# Altium integrated library Analog Devices Temperature Sensors.IntLib: 271 symbols (part 7 of 14)
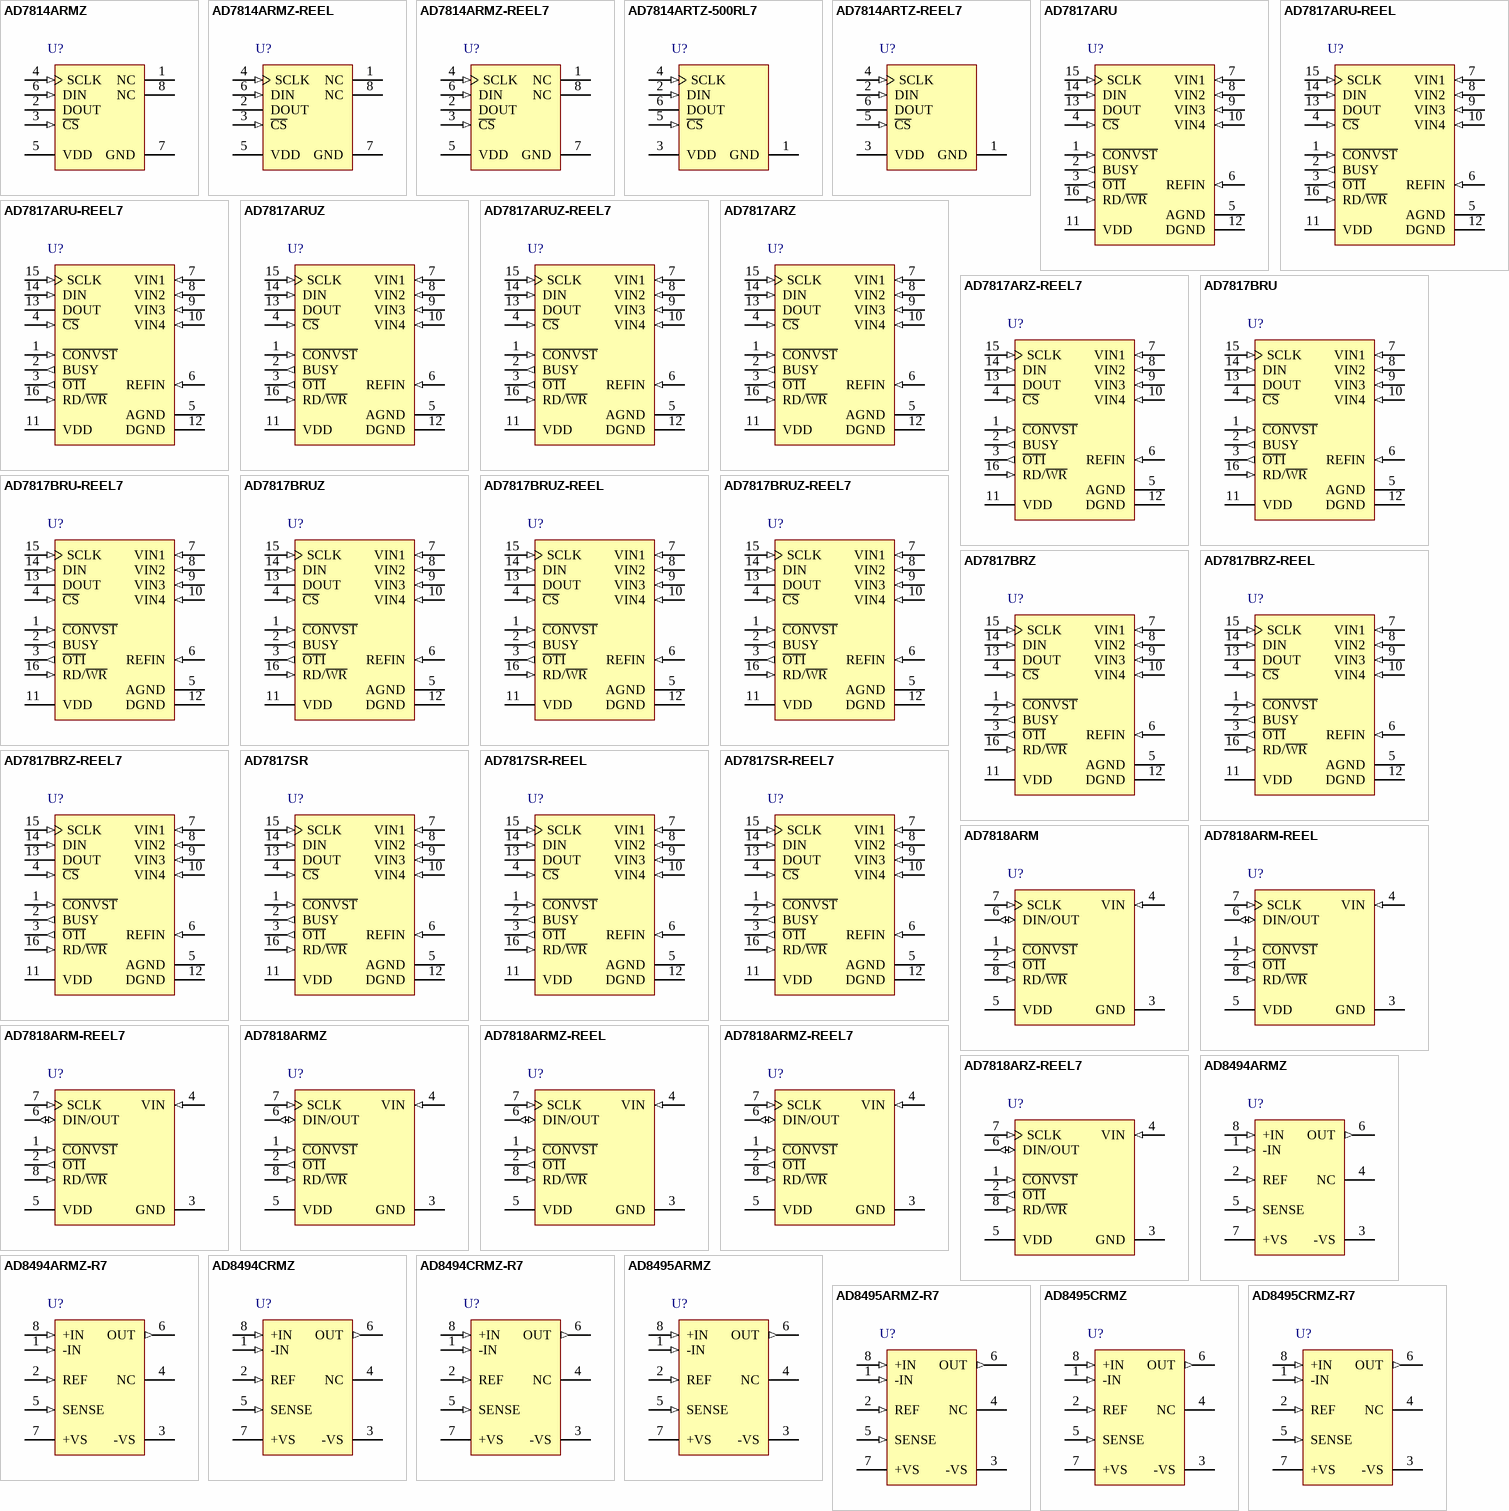
[diagram p13: symbols AD7814ARMZ to AD8495CRMZ-R7]

## AD7818ARM-REEL
designator U?
Single-Channel Temperature Sensor, 10-Bit ADC, 2.7 to 5.5 V Supply, Industrial, 8-pin SOP (RM-8), Reel; Manufacturer: Analog Devices; PartNumber: AD7818ARM-REEL; #_ADC_channels: 1; DatasheetVersion: Rev. D; PackageVersion: 08/2005; PackageReference: RM-8; PackageDescription: 8-Pin Mini Small Outline Package, Body 3 x 3 mm, Pitch 0.65 mm; Supplier 1: Digi-Key; Supplier Part Number 1: AD7818ARM-REEL-ND; Supplier 2: Mouser; Supplier Part Number 2: 584-AD7818ARM-R; Packing: Reel; Supply Voltage Range: 2.7 to 5.5 V; Mounting Technology: Surface Mount; Code_JEDEC: MO-187-AA; ComponentLink1Description: Manufacturer URL; ComponentLink1URL: http://www.analog.com/en/index.html; ComponentLink2Description: Datasheet; ComponentLink2URL: http://www.analog.com/static/imported-files/data_sheets/AD7817_7818.pdf; ComponentLink3Description: Package Specification; ComponentLink3URL: http://www.analog.com/static/imported-files/packages/PKG_PDF/MSOP%28RM%29/RM_8.pdf; ComponentLink4Description: Product URL; ComponentLink4URL: http://www.analog.com/en/mems-sensors/digital-temperature-sensors/ad7818/products/product.html
footprint ADI-RM-8_N (SOP, 8-Leads, Body 3x3mm, Pitch 0.65mm, IPC Medium Density)
footprint ADI-RM-8_L (SOP, 8-Leads, Body 3x3mm, Pitch 0.65mm, IPC High Density)
footprint ADI-RM-8_M (SOP, 8-Leads, Body 3x3mm, Pitch 0.65mm, IPC Low Density)
pins: 1 ~{CONVST} (in) "Logic Input Signal. The convert start signal initiates a 10-bit analog-to-digital conversion on the falling edge of this signal. The falling edge of this signal places track-and-hold in hold mode. Track-and-hold goes into (See Datasheet)", 2 ~{OTI} (out) "Logic Output. The overtemperature indicator (O\T\I\) is set logic low if the result of a conversion on Channel 0 (temperature sensor) is greater that an 8-bit word in the overtemperature register (OTR). The signal is reset (See Datasheet)", 3 GND (power) "Analog and Digital Ground.", 4 VIN (in) "Analog Input Channel. The input channel is single-ended with respect to GND. The input channel can convert voltage signals in the range 0 V to 2.5 V. The input channel is selected by writing to the address register of the (See Datasheet)", 5 VDD (power) "Positive Supply Voltage, 2.7 V to 5.5 V.", 6 DIN/OUT (io) "Logic Input and Output. Serial data is clocked in and out of the AD7818 at this pin.", 7 SCLK (in) "Clock Input for the Serial Port. The serial clock is used to clock data into and out of the AD7818. Data is clocked out on the falling edge and clocked in on the rising edge.", 8 RD/~{WR} (in) "Logic Input. The read/write signal is used to indicate to the AD7818 whether the next data transfer operation is a read or a write. Set the RD/W\R\ logic high for a read operation and logic low for a write."

## AD7818ARM-REEL7
designator U?
Single-Channel Temperature Sensor, 10-Bit ADC, 2.7 to 5.5 V Supply, Industrial, 8-pin SOP (RM-8), Reel; Manufacturer: Analog Devices; PartNumber: AD7818ARM-REEL7; #_ADC_channels: 1; DatasheetVersion: Rev. D; PackageVersion: 08/2005; PackageReference: RM-8; PackageDescription: 8-Pin Mini Small Outline Package, Body 3 x 3 mm, Pitch 0.65 mm; Supplier 1: Mouser; Supplier Part Number 1: N/A; Packing: Reel; Supply Voltage Range: 2.7 to 5.5 V; Mounting Technology: Surface Mount; Code_JEDEC: MO-187-AA; ComponentLink1Description: Manufacturer URL; ComponentLink1URL: http://www.analog.com/en/index.html; ComponentLink2Description: Datasheet; ComponentLink2URL: http://www.analog.com/static/imported-files/data_sheets/AD7817_7818.pdf; ComponentLink3Description: Package Specification; ComponentLink3URL: http://www.analog.com/static/imported-files/packages/PKG_PDF/MSOP%28RM%29/RM_8.pdf; ComponentLink4Description: Product URL; ComponentLink4URL: http://www.analog.com/en/mems-sensors/digital-temperature-sensors/ad7818/products/product.html
footprint ADI-RM-8_N (SOP, 8-Leads, Body 3x3mm, Pitch 0.65mm, IPC Medium Density)
footprint ADI-RM-8_L (SOP, 8-Leads, Body 3x3mm, Pitch 0.65mm, IPC High Density)
footprint ADI-RM-8_M (SOP, 8-Leads, Body 3x3mm, Pitch 0.65mm, IPC Low Density)
pins: 1 ~{CONVST} (in) "Logic Input Signal. The convert start signal initiates a 10-bit analog-to-digital conversion on the falling edge of this signal. The falling edge of this signal places track-and-hold in hold mode. Track-and-hold goes into (See Datasheet)", 2 ~{OTI} (out) "Logic Output. The overtemperature indicator (O\T\I\) is set logic low if the result of a conversion on Channel 0 (temperature sensor) is greater that an 8-bit word in the overtemperature register (OTR). The signal is reset (See Datasheet)", 3 GND (power) "Analog and Digital Ground.", 4 VIN (in) "Analog Input Channel. The input channel is single-ended with respect to GND. The input channel can convert voltage signals in the range 0 V to 2.5 V. The input channel is selected by writing to the address register of the (See Datasheet)", 5 VDD (power) "Positive Supply Voltage, 2.7 V to 5.5 V.", 6 DIN/OUT (io) "Logic Input and Output. Serial data is clocked in and out of the AD7818 at this pin.", 7 SCLK (in) "Clock Input for the Serial Port. The serial clock is used to clock data into and out of the AD7818. Data is clocked out on the falling edge and clocked in on the rising edge.", 8 RD/~{WR} (in) "Logic Input. The read/write signal is used to indicate to the AD7818 whether the next data transfer operation is a read or a write. Set the RD/W\R\ logic high for a read operation and logic low for a write."

## AD7818ARMZ
designator U?
Single-Channel Temperature Sensor, 10-Bit ADC, 2.7 to 5.5 V Supply, Industrial, 8-pin SOP (RM-8), Tube; Manufacturer: Analog Devices; PartNumber: AD7818ARMZ; #_ADC_channels: 1; DatasheetVersion: Rev. D; PackageVersion: 08/2005; PackageReference: RM-8; PackageDescription: 8-Pin Mini Small Outline Package, Body 3 x 3 mm, Pitch 0.65 mm; Supplier 1: Digi-Key; Supplier Part Number 1: AD7818ARMZ-ND; Supplier 2: Farnell; Supplier Part Number 2: 2376587; Supplier 3: Newark; Supplier Part Number 3: 23X6228; Supplier 4: Newark; Supplier Part Number 4: 59K5556; Supplier 5: Mouser; Supplier Part Number 5: 584-AD7818ARMZ; Packing: Tube; Supply Voltage Range: 2.7 to 5.5 V; Mounting Technology: Surface Mount; Code_JEDEC: MO-187-AA; ComponentLink1Description: Manufacturer URL; ComponentLink1URL: http://www.analog.com/en/index.html; ComponentLink2Description: Datasheet; ComponentLink2URL: http://www.analog.com/static/imported-files/data_sheets/AD7817_7818.pdf; ComponentLink3Description: Package Specification; ComponentLink3URL: http://www.analog.com/static/imported-files/packages/PKG_PDF/MSOP%28RM%29/RM_8.pdf; ComponentLink4Description: Product URL; ComponentLink4URL: http://www.analog.com/en/mems-sensors/digital-temperature-sensors/ad7818/products/product.html
footprint ADI-RM-8_N (SOP, 8-Leads, Body 3x3mm, Pitch 0.65mm, IPC Medium Density)
footprint ADI-RM-8_L (SOP, 8-Leads, Body 3x3mm, Pitch 0.65mm, IPC High Density)
footprint ADI-RM-8_M (SOP, 8-Leads, Body 3x3mm, Pitch 0.65mm, IPC Low Density)
pins: 1 ~{CONVST} (in) "Logic Input Signal. The convert start signal initiates a 10-bit analog-to-digital conversion on the falling edge of this signal. The falling edge of this signal places track-and-hold in hold mode. Track-and-hold goes into (See Datasheet)", 2 ~{OTI} (out) "Logic Output. The overtemperature indicator (O\T\I\) is set logic low if the result of a conversion on Channel 0 (temperature sensor) is greater that an 8-bit word in the overtemperature register (OTR). The signal is reset (See Datasheet)", 3 GND (power) "Analog and Digital Ground.", 4 VIN (in) "Analog Input Channel. The input channel is single-ended with respect to GND. The input channel can convert voltage signals in the range 0 V to 2.5 V. The input channel is selected by writing to the address register of the (See Datasheet)", 5 VDD (power) "Positive Supply Voltage, 2.7 V to 5.5 V.", 6 DIN/OUT (io) "Logic Input and Output. Serial data is clocked in and out of the AD7818 at this pin.", 7 SCLK (in) "Clock Input for the Serial Port. The serial clock is used to clock data into and out of the AD7818. Data is clocked out on the falling edge and clocked in on the rising edge.", 8 RD/~{WR} (in) "Logic Input. The read/write signal is used to indicate to the AD7818 whether the next data transfer operation is a read or a write. Set the RD/W\R\ logic high for a read operation and logic low for a write."

## AD7818ARMZ-REEL
designator U?
Single-Channel Temperature Sensor, 10-Bit ADC, 2.7 to 5.5 V Supply, Industrial, 8-pin SOP (RM-8), Reel; Manufacturer: Analog Devices; PartNumber: AD7818ARMZ-REEL; #_ADC_channels: 1; DatasheetVersion: Rev. D; PackageVersion: 08/2005; PackageReference: RM-8; PackageDescription: 8-Pin Mini Small Outline Package, Body 3 x 3 mm, Pitch 0.65 mm; Supplier 1: Digi-Key; Supplier Part Number 1: AD7818ARMZ-REEL-ND; Supplier 2: Mouser; Supplier Part Number 2: 584-AD7818ARMZ-R; Packing: Reel; Supply Voltage Range: 2.7 to 5.5 V; Mounting Technology: Surface Mount; Code_JEDEC: MO-187-AA; ComponentLink1Description: Manufacturer URL; ComponentLink1URL: http://www.analog.com/en/index.html; ComponentLink2Description: Datasheet; ComponentLink2URL: http://www.analog.com/static/imported-files/data_sheets/AD7817_7818.pdf; ComponentLink3Description: Package Specification; ComponentLink3URL: http://www.analog.com/static/imported-files/packages/PKG_PDF/MSOP%28RM%29/RM_8.pdf; ComponentLink4Description: Product URL; ComponentLink4URL: http://www.analog.com/en/mems-sensors/digital-temperature-sensors/ad7818/products/product.html
footprint ADI-RM-8_N (SOP, 8-Leads, Body 3x3mm, Pitch 0.65mm, IPC Medium Density)
footprint ADI-RM-8_L (SOP, 8-Leads, Body 3x3mm, Pitch 0.65mm, IPC High Density)
footprint ADI-RM-8_M (SOP, 8-Leads, Body 3x3mm, Pitch 0.65mm, IPC Low Density)
pins: 1 ~{CONVST} (in) "Logic Input Signal. The convert start signal initiates a 10-bit analog-to-digital conversion on the falling edge of this signal. The falling edge of this signal places track-and-hold in hold mode. Track-and-hold goes into (See Datasheet)", 2 ~{OTI} (out) "Logic Output. The overtemperature indicator (O\T\I\) is set logic low if the result of a conversion on Channel 0 (temperature sensor) is greater that an 8-bit word in the overtemperature register (OTR). The signal is reset (See Datasheet)", 3 GND (power) "Analog and Digital Ground.", 4 VIN (in) "Analog Input Channel. The input channel is single-ended with respect to GND. The input channel can convert voltage signals in the range 0 V to 2.5 V. The input channel is selected by writing to the address register of the (See Datasheet)", 5 VDD (power) "Positive Supply Voltage, 2.7 V to 5.5 V.", 6 DIN/OUT (io) "Logic Input and Output. Serial data is clocked in and out of the AD7818 at this pin.", 7 SCLK (in) "Clock Input for the Serial Port. The serial clock is used to clock data into and out of the AD7818. Data is clocked out on the falling edge and clocked in on the rising edge.", 8 RD/~{WR} (in) "Logic Input. The read/write signal is used to indicate to the AD7818 whether the next data transfer operation is a read or a write. Set the RD/W\R\ logic high for a read operation and logic low for a write."

## AD7818ARMZ-REEL7
designator U?
Single-Channel Temperature Sensor, 10-Bit ADC, 2.7 to 5.5 V Supply, Industrial, 8-pin SOP (RM-8), Reel; Manufacturer: Analog Devices; PartNumber: AD7818ARMZ-REEL7; #_ADC_channels: 1; DatasheetVersion: Rev. D; PackageVersion: 08/2005; PackageReference: RM-8; PackageDescription: 8-Pin Mini Small Outline Package, Body 3 x 3 mm, Pitch 0.65 mm; Supplier 1: Digi-Key; Supplier Part Number 1: AD7818ARMZ-REEL7-ND; Supplier 2: Mouser; Supplier Part Number 2: 584-AD7818ARMZ-R7; Packing: Reel; Supply Voltage Range: 2.7 to 5.5 V; Mounting Technology: Surface Mount; Code_JEDEC: MO-187-AA; ComponentLink1Description: Manufacturer URL; ComponentLink1URL: http://www.analog.com/en/index.html; ComponentLink2Description: Datasheet; ComponentLink2URL: http://www.analog.com/static/imported-files/data_sheets/AD7817_7818.pdf; ComponentLink3Description: Package Specification; ComponentLink3URL: http://www.analog.com/static/imported-files/packages/PKG_PDF/MSOP%28RM%29/RM_8.pdf; ComponentLink4Description: Product URL; ComponentLink4URL: http://www.analog.com/en/mems-sensors/digital-temperature-sensors/ad7818/products/product.html
footprint ADI-RM-8_N (SOP, 8-Leads, Body 3x3mm, Pitch 0.65mm, IPC Medium Density)
footprint ADI-RM-8_L (SOP, 8-Leads, Body 3x3mm, Pitch 0.65mm, IPC High Density)
footprint ADI-RM-8_M (SOP, 8-Leads, Body 3x3mm, Pitch 0.65mm, IPC Low Density)
pins: 1 ~{CONVST} (in) "Logic Input Signal. The convert start signal initiates a 10-bit analog-to-digital conversion on the falling edge of this signal. The falling edge of this signal places track-and-hold in hold mode. Track-and-hold goes into (See Datasheet)", 2 ~{OTI} (out) "Logic Output. The overtemperature indicator (O\T\I\) is set logic low if the result of a conversion on Channel 0 (temperature sensor) is greater that an 8-bit word in the overtemperature register (OTR). The signal is reset (See Datasheet)", 3 GND (power) "Analog and Digital Ground.", 4 VIN (in) "Analog Input Channel. The input channel is single-ended with respect to GND. The input channel can convert voltage signals in the range 0 V to 2.5 V. The input channel is selected by writing to the address register of the (See Datasheet)", 5 VDD (power) "Positive Supply Voltage, 2.7 V to 5.5 V.", 6 DIN/OUT (io) "Logic Input and Output. Serial data is clocked in and out of the AD7818 at this pin.", 7 SCLK (in) "Clock Input for the Serial Port. The serial clock is used to clock data into and out of the AD7818. Data is clocked out on the falling edge and clocked in on the rising edge.", 8 RD/~{WR} (in) "Logic Input. The read/write signal is used to indicate to the AD7818 whether the next data transfer operation is a read or a write. Set the RD/W\R\ logic high for a read operation and logic low for a write."

## AD7818ARZ-REEL7
designator U?
Single-Channel Temperature Sensor, 10-Bit ADC, 2.7 to 5.5 V Supply, Commercial, 8-pin SOIC (R-8), Reel; Manufacturer: Analog Devices; PartNumber: AD7818ARZ-REEL7; #_ADC_channels: 1; DatasheetVersion: Rev. D; PackageVersion: 060506-A, 06/2006; PackageReference: R-8; PackageDescription: 8-Pin Standard Small Outline Package, Body 4.9 x 3.9 mm, Pitch 1.27 mm; Supplier 1: Digi-Key; Supplier Part Number 1: AD7818ARZ-REEL7TR-ND; Supplier 2: Digi-Key; Supplier Part Number 2: AD7818ARZ-REEL7CT-ND; Supplier 3: Digi-Key; Supplier Part Number 3: AD7818ARZ-REEL7DKR-ND; Supplier 4: Mouser; Supplier Part Number 4: 584-AD7818ARZ-R7; Packing: Reel; Supply Voltage Range: 2.7 to 5.5 V; Mounting Technology: Surface Mount; Code_JEDEC: MS-012-AA; ComponentLink1Description: Manufacturer URL; ComponentLink1URL: http://www.analog.com/en/index.html; ComponentLink2Description: Datasheet; ComponentLink2URL: http://www.analog.com/static/imported-files/data_sheets/AD7817_7818.pdf; ComponentLink3Description: Package Specification; ComponentLink3URL: http://www.analog.com/static/imported-files/packages/PKG_PDF/SOIC_Narrow%20(R)/R_8.pdf; ComponentLink4Description: Product URL; ComponentLink4URL: http://www.analog.com/en/mems-sensors/digital-temperature-sensors/ad7818/products/product.html
footprint ADI-R-8_N (SOIC, 8-Leads, Body 4.9x3.9mm, Pitch 1.27mm, IPC Medium Density)
footprint ADI-R-8_L (SOIC, 8-Leads, Body 4.9x3.9mm, Pitch 1.27mm, IPC High Density)
footprint ADI-R-8_M (SOIC, 8-Leads, Body 4.9x3.9mm, Pitch 1.27mm, IPC Low Density)
pins: 1 ~{CONVST} (in) "Logic Input Signal. The convert start signal initiates a 10-bit analog-to-digital conversion on the falling edge of this signal. The falling edge of this signal places track-and-hold in hold mode. Track-and-hold goes into (See Datasheet)", 2 ~{OTI} (out) "Logic Output. The overtemperature indicator (O\T\I\) is set logic low if the result of a conversion on Channel 0 (temperature sensor) is greater that an 8-bit word in the overtemperature register (OTR). The signal is reset (See Datasheet)", 3 GND (power) "Analog and Digital Ground.", 4 VIN (in) "Analog Input Channel. The input channel is single-ended with respect to GND. The input channel can convert voltage signals in the range 0 V to 2.5 V. The input channel is selected by writing to the address register of the (See Datasheet)", 5 VDD (power) "Positive Supply Voltage, 2.7 V to 5.5 V.", 6 DIN/OUT (io) "Logic Input and Output. Serial data is clocked in and out of the AD7818 at this pin.", 7 SCLK (in) "Clock Input for the Serial Port. The serial clock is used to clock data into and out of the AD7818. Data is clocked out on the falling edge and clocked in on the rising edge.", 8 RD/~{WR} (in) "Logic Input. The read/write signal is used to indicate to the AD7818 whether the next data transfer operation is a read or a write. Set the RD/W\R\ logic high for a read operation and logic low for a write."

## AD8494ARMZ
designator U?
Full J-Type Thermocouple Amplifier with Cold Junction Compensation, Industrial, 8-pin SOP (RM-8), Tube; Manufacturer: Analog Devices; PartNumber: AD8494ARMZ; DatasheetVersion: Rev. C; PackageVersion: 08/2005; PackageReference: RM-8; PackageDescription: 8-Pin Mini Small Outline Package, Body 3 x 3 mm, Pitch 0.65 mm; Supplier 1: Digi-Key; Supplier Part Number 1: AD8494ARMZ-ND; Supplier 2: Newark; Supplier Part Number 2: 91R2589; Supplier 3: Mouser; Supplier Part Number 3: 584-AD8494ARMZ; Packing: Tube; Mounting Technology: Surface Mount; Code_JEDEC: MO-187-AA; ComponentLink1Description: Manufacturer URL; ComponentLink1URL: http://www.analog.com/en/index.html; ComponentLink2Description: Datasheet; ComponentLink2URL: http://www.analog.com/static/imported-files/data_sheets/AD8494_8495_8496_8497.pdf; ComponentLink3Description: Package Specification; ComponentLink3URL: http://www.analog.com/static/imported-files/packages/PKG_PDF/MSOP%28RM%29/RM_8.pdf; ComponentLink4Description: Product URL; ComponentLink4URL: http://www.analog.com/en/mems-sensors/digital-temperature-sensors/ad8494/products/product.html
footprint ADI-RM-8_N (SOP, 8-Leads, Body 3x3mm, Pitch 0.65mm, IPC Medium Density)
footprint ADI-RM-8_L (SOP, 8-Leads, Body 3x3mm, Pitch 0.65mm, IPC High Density)
footprint ADI-RM-8_M (SOP, 8-Leads, Body 3x3mm, Pitch 0.65mm, IPC Low Density)
pins: 1 -IN (in) "Negative Input.", 2 REF (in) "Reference. This pin must be driven by low impedance.", 3 -VS (power) "Negative Supply.", 4 NC "No Connect.", 5 SENSE (in) "Sense Pin. In measurement mode, connect to output; in setpoint mode, connect to setpoint voltage.", 6 OUT (out) "Output.", 7 +VS (power) "Positive Supply.", 8 +IN (in) "Positive Input."

## AD8494ARMZ-R7
designator U?
Full J-Type Thermocouple Amplifier with Cold Junction Compensation, Industrial, 8-pin SOP (RM-8), Reel; Manufacturer: Analog Devices; PartNumber: AD8494ARMZ-R7; DatasheetVersion: Rev. C; PackageVersion: 08/2005; PackageReference: RM-8; PackageDescription: 8-Pin Mini Small Outline Package, Body 3 x 3 mm, Pitch 0.65 mm; Supplier 1: Digi-Key; Supplier Part Number 1: AD8494ARMZ-R7-ND; Supplier 2: Newark; Supplier Part Number 2: 91R2590; Supplier 3: Mouser; Supplier Part Number 3: 584-AD8494ARMZ-R7; Packing: Reel; Mounting Technology: Surface Mount; Code_JEDEC: MO-187-AA; ComponentLink1Description: Manufacturer URL; ComponentLink1URL: http://www.analog.com/en/index.html; ComponentLink2Description: Datasheet; ComponentLink2URL: http://www.analog.com/static/imported-files/data_sheets/AD8494_8495_8496_8497.pdf; ComponentLink3Description: Package Specification; ComponentLink3URL: http://www.analog.com/static/imported-files/packages/PKG_PDF/MSOP%28RM%29/RM_8.pdf; ComponentLink4Description: Product URL; ComponentLink4URL: http://www.analog.com/en/mems-sensors/digital-temperature-sensors/ad8494/products/product.html
footprint ADI-RM-8_N (SOP, 8-Leads, Body 3x3mm, Pitch 0.65mm, IPC Medium Density)
footprint ADI-RM-8_L (SOP, 8-Leads, Body 3x3mm, Pitch 0.65mm, IPC High Density)
footprint ADI-RM-8_M (SOP, 8-Leads, Body 3x3mm, Pitch 0.65mm, IPC Low Density)
pins: 1 -IN (in) "Negative Input.", 2 REF (in) "Reference. This pin must be driven by low impedance.", 3 -VS (power) "Negative Supply.", 4 NC "No Connect.", 5 SENSE (in) "Sense Pin. In measurement mode, connect to output; in setpoint mode, connect to setpoint voltage.", 6 OUT (out) "Output.", 7 +VS (power) "Positive Supply.", 8 +IN (in) "Positive Input."

## AD8494CRMZ
designator U?
Full J-Type Thermocouple Amplifier with Cold Junction Compensation, Industrial, 8-pin SOP (RM-8), Tube; Manufacturer: Analog Devices; PartNumber: AD8494CRMZ; DatasheetVersion: Rev. C; PackageVersion: 08/2005; PackageReference: RM-8; PackageDescription: 8-Pin Mini Small Outline Package, Body 3 x 3 mm, Pitch 0.65 mm; Supplier 1: Digi-Key; Supplier Part Number 1: AD8494CRMZ-ND; Supplier 2: Farnell; Supplier Part Number 2: 1864706; Supplier 3: Farnell; Supplier Part Number 3: 2144485; Supplier 4: Newark; Supplier Part Number 4: 91R2591; Supplier 5: Mouser; Supplier Part Number 5: 584-AD8494CRMZ; Packing: Tube; Mounting Technology: Surface Mount; Code_JEDEC: MO-187-AA; ComponentLink1Description: Manufacturer URL; ComponentLink1URL: http://www.analog.com/en/index.html; ComponentLink2Description: Datasheet; ComponentLink2URL: http://www.analog.com/static/imported-files/data_sheets/AD8494_8495_8496_8497.pdf; ComponentLink3Description: Package Specification; ComponentLink3URL: http://www.analog.com/static/imported-files/packages/PKG_PDF/MSOP%28RM%29/RM_8.pdf; ComponentLink4Description: Product URL; ComponentLink4URL: http://www.analog.com/en/mems-sensors/digital-temperature-sensors/ad8494/products/product.html
footprint ADI-RM-8_N (SOP, 8-Leads, Body 3x3mm, Pitch 0.65mm, IPC Medium Density)
footprint ADI-RM-8_L (SOP, 8-Leads, Body 3x3mm, Pitch 0.65mm, IPC High Density)
footprint ADI-RM-8_M (SOP, 8-Leads, Body 3x3mm, Pitch 0.65mm, IPC Low Density)
pins: 1 -IN (in) "Negative Input.", 2 REF (in) "Reference. This pin must be driven by low impedance.", 3 -VS (power) "Negative Supply.", 4 NC "No Connect.", 5 SENSE (in) "Sense Pin. In measurement mode, connect to output; in setpoint mode, connect to setpoint voltage.", 6 OUT (out) "Output.", 7 +VS (power) "Positive Supply.", 8 +IN (in) "Positive Input."

## AD8494CRMZ-R7
designator U?
Full J-Type Thermocouple Amplifier with Cold Junction Compensation, Industrial, 8-pin SOP (RM-8), Reel; Manufacturer: Analog Devices; PartNumber: AD8494CRMZ-R7; DatasheetVersion: Rev. C; PackageVersion: 08/2005; PackageReference: RM-8; PackageDescription: 8-Pin Mini Small Outline Package, Body 3 x 3 mm, Pitch 0.65 mm; Supplier 1: Digi-Key; Supplier Part Number 1: AD8494CRMZ-R7-ND; Supplier 2: Newark; Supplier Part Number 2: 91R2592; Supplier 3: Mouser; Supplier Part Number 3: 584-AD8494CRMZ-R7; Packing: Reel; Mounting Technology: Surface Mount; Code_JEDEC: MO-187-AA; ComponentLink1Description: Manufacturer URL; ComponentLink1URL: http://www.analog.com/en/index.html; ComponentLink2Description: Datasheet; ComponentLink2URL: http://www.analog.com/static/imported-files/data_sheets/AD8494_8495_8496_8497.pdf; ComponentLink3Description: Package Specification; ComponentLink3URL: http://www.analog.com/static/imported-files/packages/PKG_PDF/MSOP%28RM%29/RM_8.pdf; ComponentLink4Description: Product URL; ComponentLink4URL: http://www.analog.com/en/mems-sensors/digital-temperature-sensors/ad8494/products/product.html
footprint ADI-RM-8_N (SOP, 8-Leads, Body 3x3mm, Pitch 0.65mm, IPC Medium Density)
footprint ADI-RM-8_L (SOP, 8-Leads, Body 3x3mm, Pitch 0.65mm, IPC High Density)
footprint ADI-RM-8_M (SOP, 8-Leads, Body 3x3mm, Pitch 0.65mm, IPC Low Density)
pins: 1 -IN (in) "Negative Input.", 2 REF (in) "Reference. This pin must be driven by low impedance.", 3 -VS (power) "Negative Supply.", 4 NC "No Connect.", 5 SENSE (in) "Sense Pin. In measurement mode, connect to output; in setpoint mode, connect to setpoint voltage.", 6 OUT (out) "Output.", 7 +VS (power) "Positive Supply.", 8 +IN (in) "Positive Input."

## AD8495ARMZ
designator U?
Full K-Type Thermocouple Amplifier with Cold Junction Compensation, Industrial, 8-pin SOP (RM-8), Tube; Manufacturer: Analog Devices; PartNumber: AD8495ARMZ; DatasheetVersion: Rev. C; PackageVersion: 08/2005; PackageReference: RM-8; PackageDescription: 8-Pin Mini Small Outline Package, Body 3 x 3 mm, Pitch 0.65 mm; Supplier 1: Digi-Key; Supplier Part Number 1: AD8495ARMZ-ND; Supplier 2: Farnell; Supplier Part Number 2: 1864707; Supplier 3: Farnell; Supplier Part Number 3: 2134856; Supplier 4: Newark; Supplier Part Number 4: 85R6446; Supplier 5: Mouser; Supplier Part Number 5: 584-AD8495ARMZ; Packing: Tube; Mounting Technology: Surface Mount; Code_JEDEC: MO-187-AA; ComponentLink1Description: Manufacturer URL; ComponentLink1URL: http://www.analog.com/en/index.html; ComponentLink2Description: Datasheet; ComponentLink2URL: http://www.analog.com/static/imported-files/data_sheets/AD8494_8495_8496_8497.pdf; ComponentLink3Description: Package Specification; ComponentLink3URL: http://www.analog.com/static/imported-files/packages/PKG_PDF/MSOP%28RM%29/RM_8.pdf; ComponentLink4Description: Product URL; ComponentLink4URL: http://www.analog.com/en/mems-sensors/digital-temperature-sensors/ad8495/products/product.html
footprint ADI-RM-8_N (SOP, 8-Leads, Body 3x3mm, Pitch 0.65mm, IPC Medium Density)
footprint ADI-RM-8_L (SOP, 8-Leads, Body 3x3mm, Pitch 0.65mm, IPC High Density)
footprint ADI-RM-8_M (SOP, 8-Leads, Body 3x3mm, Pitch 0.65mm, IPC Low Density)
pins: 1 -IN (in) "Negative Input.", 2 REF (in) "Reference. This pin must be driven by low impedance.", 3 -VS (power) "Negative Supply.", 4 NC "No Connect.", 5 SENSE (in) "Sense Pin. In measurement mode, connect to output; in setpoint mode, connect to setpoint voltage.", 6 OUT (out) "Output.", 7 +VS (power) "Positive Supply.", 8 +IN (in) "Positive Input."

## AD8495ARMZ-R7
designator U?
Full K-Type Thermocouple Amplifier with Cold Junction Compensation, Industrial, 8-pin SOP (RM-8), Reel; Manufacturer: Analog Devices; PartNumber: AD8495ARMZ-R7; DatasheetVersion: Rev. C; PackageVersion: 08/2005; PackageReference: RM-8; PackageDescription: 8-Pin Mini Small Outline Package, Body 3 x 3 mm, Pitch 0.65 mm; Supplier 1: Digi-Key; Supplier Part Number 1: AD8495ARMZ-R7-ND; Supplier 2: Mouser; Supplier Part Number 2: 584-AD8495ARMZ-R7; Packing: Reel; Mounting Technology: Surface Mount; Code_JEDEC: MO-187-AA; ComponentLink1Description: Manufacturer URL; ComponentLink1URL: http://www.analog.com/en/index.html; ComponentLink2Description: Datasheet; ComponentLink2URL: http://www.analog.com/static/imported-files/data_sheets/AD8494_8495_8496_8497.pdf; ComponentLink3Description: Package Specification; ComponentLink3URL: http://www.analog.com/static/imported-files/packages/PKG_PDF/MSOP%28RM%29/RM_8.pdf; ComponentLink4Description: Product URL; ComponentLink4URL: http://www.analog.com/en/mems-sensors/digital-temperature-sensors/ad8495/products/product.html
footprint ADI-RM-8_N (SOP, 8-Leads, Body 3x3mm, Pitch 0.65mm, IPC Medium Density)
footprint ADI-RM-8_L (SOP, 8-Leads, Body 3x3mm, Pitch 0.65mm, IPC High Density)
footprint ADI-RM-8_M (SOP, 8-Leads, Body 3x3mm, Pitch 0.65mm, IPC Low Density)
pins: 1 -IN (in) "Negative Input.", 2 REF (in) "Reference. This pin must be driven by low impedance.", 3 -VS (power) "Negative Supply.", 4 NC "No Connect.", 5 SENSE (in) "Sense Pin. In measurement mode, connect to output; in setpoint mode, connect to setpoint voltage.", 6 OUT (out) "Output.", 7 +VS (power) "Positive Supply.", 8 +IN (in) "Positive Input."

## AD8495CRMZ
designator U?
Full K-Type Thermocouple Amplifier with Cold Junction Compensation, Industrial, 8-pin SOP (RM-8), Tube; Manufacturer: Analog Devices; PartNumber: AD8495CRMZ; DatasheetVersion: Rev. C; PackageVersion: 08/2005; PackageReference: RM-8; PackageDescription: 8-Pin Mini Small Outline Package, Body 3 x 3 mm, Pitch 0.65 mm; Supplier 1: Digi-Key; Supplier Part Number 1: AD8495CRMZ-ND; Supplier 2: Farnell; Supplier Part Number 2: 2067807; Supplier 3: Newark; Supplier Part Number 3: 85R6448; Supplier 4: Newark; Supplier Part Number 4: 73T8194; Supplier 5: Mouser; Supplier Part Number 5: 584-AD8495CRMZ; Packing: Tube; Mounting Technology: Surface Mount; Code_JEDEC: MO-187-AA; ComponentLink1Description: Manufacturer URL; ComponentLink1URL: http://www.analog.com/en/index.html; ComponentLink2Description: Datasheet; ComponentLink2URL: http://www.analog.com/static/imported-files/data_sheets/AD8494_8495_8496_8497.pdf; ComponentLink3Description: Package Specification; ComponentLink3URL: http://www.analog.com/static/imported-files/packages/PKG_PDF/MSOP%28RM%29/RM_8.pdf; ComponentLink4Description: Product URL; ComponentLink4URL: http://www.analog.com/en/mems-sensors/digital-temperature-sensors/ad8495/products/product.html
footprint ADI-RM-8_N (SOP, 8-Leads, Body 3x3mm, Pitch 0.65mm, IPC Medium Density)
footprint ADI-RM-8_L (SOP, 8-Leads, Body 3x3mm, Pitch 0.65mm, IPC High Density)
footprint ADI-RM-8_M (SOP, 8-Leads, Body 3x3mm, Pitch 0.65mm, IPC Low Density)
pins: 1 -IN (in) "Negative Input.", 2 REF (in) "Reference. This pin must be driven by low impedance.", 3 -VS (power) "Negative Supply.", 4 NC "No Connect.", 5 SENSE (in) "Sense Pin. In measurement mode, connect to output; in setpoint mode, connect to setpoint voltage.", 6 OUT (out) "Output.", 7 +VS (power) "Positive Supply.", 8 +IN (in) "Positive Input."

## AD8495CRMZ-R7
designator U?
Full K-Type Thermocouple Amplifier with Cold Junction Compensation, Industrial, 8-pin SOP (RM-8), Reel; Manufacturer: Analog Devices; PartNumber: AD8495CRMZ-R7; DatasheetVersion: Rev. C; PackageVersion: 08/2005; PackageReference: RM-8; PackageDescription: 8-Pin Mini Small Outline Package, Body 3 x 3 mm, Pitch 0.65 mm; Supplier 1: Digi-Key; Supplier Part Number 1: AD8495CRMZ-R7-ND; Supplier 2: Newark; Supplier Part Number 2: 85R6449; Supplier 3: Mouser; Supplier Part Number 3: 584-AD8495CRMZ-R7; Packing: Reel; Mounting Technology: Surface Mount; Code_JEDEC: MO-187-AA; ComponentLink1Description: Manufacturer URL; ComponentLink1URL: http://www.analog.com/en/index.html; ComponentLink2Description: Datasheet; ComponentLink2URL: http://www.analog.com/static/imported-files/data_sheets/AD8494_8495_8496_8497.pdf; ComponentLink3Description: Package Specification; ComponentLink3URL: http://www.analog.com/static/imported-files/packages/PKG_PDF/MSOP%28RM%29/RM_8.pdf; ComponentLink4Description: Product URL; ComponentLink4URL: http://www.analog.com/en/mems-sensors/digital-temperature-sensors/ad8495/products/product.html
footprint ADI-RM-8_N (SOP, 8-Leads, Body 3x3mm, Pitch 0.65mm, IPC Medium Density)
footprint ADI-RM-8_L (SOP, 8-Leads, Body 3x3mm, Pitch 0.65mm, IPC High Density)
footprint ADI-RM-8_M (SOP, 8-Leads, Body 3x3mm, Pitch 0.65mm, IPC Low Density)
pins: 1 -IN (in) "Negative Input.", 2 REF (in) "Reference. This pin must be driven by low impedance.", 3 -VS (power) "Negative Supply.", 4 NC "No Connect.", 5 SENSE (in) "Sense Pin. In measurement mode, connect to output; in setpoint mode, connect to setpoint voltage.", 6 OUT (out) "Output.", 7 +VS (power) "Positive Supply.", 8 +IN (in) "Positive Input."

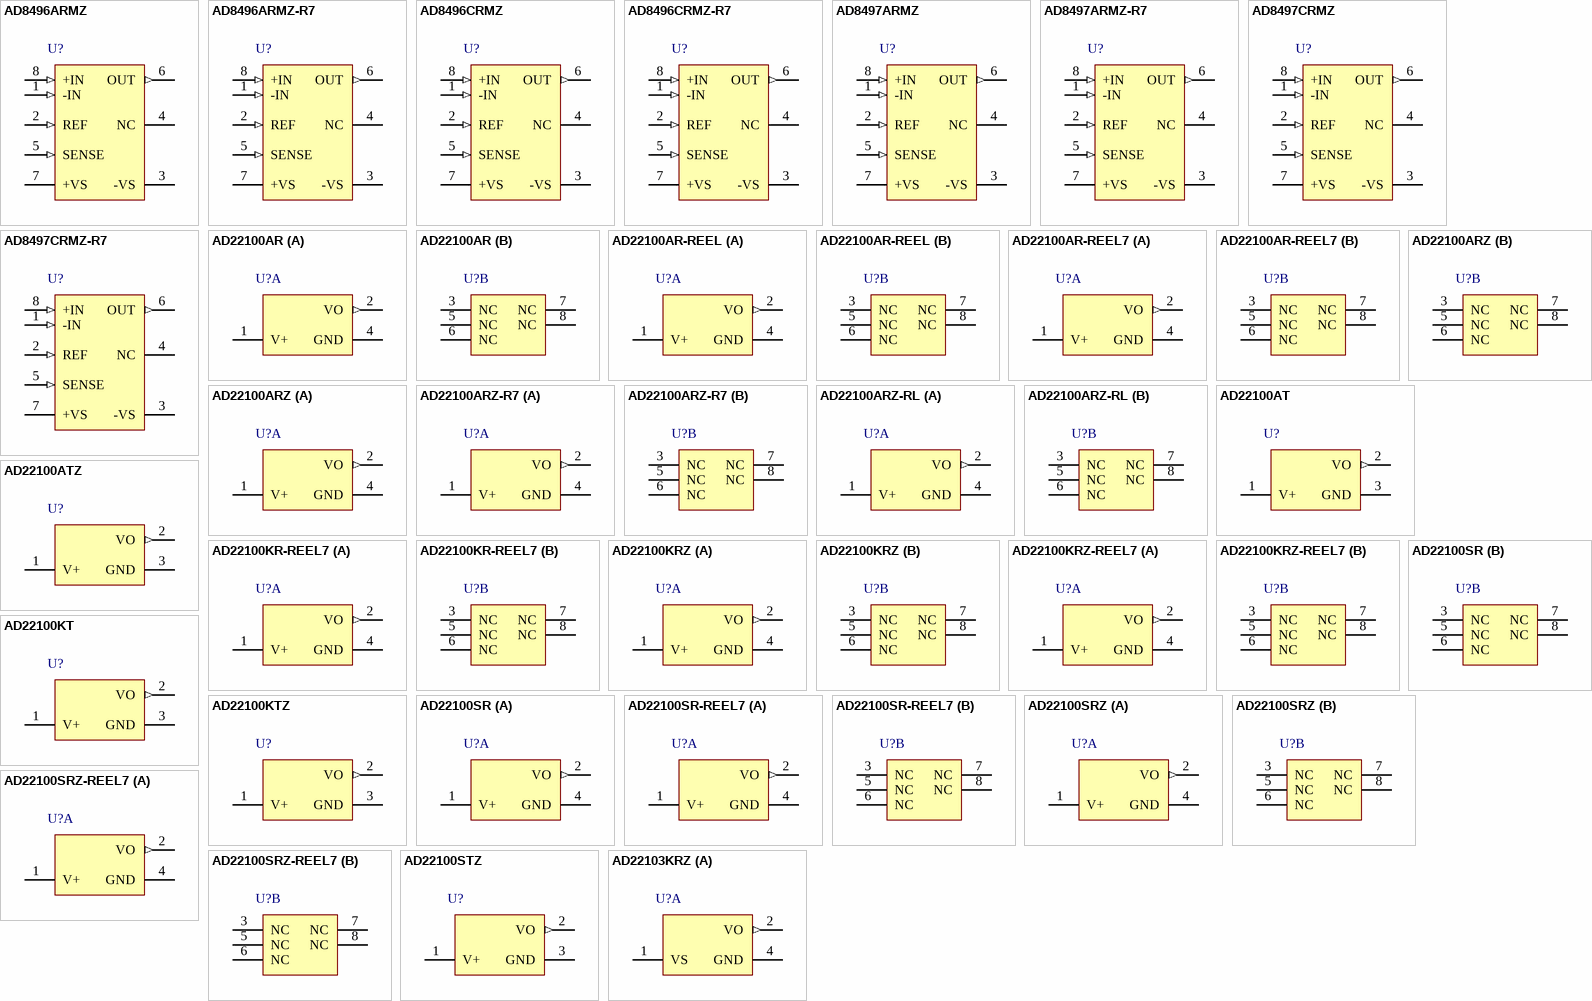
[diagram p3: symbols AD8496ARMZ to AD22103KRZ]

## AD8496ARMZ
designator U?
Full J-Type Thermocouple Amplifier with Cold Junction Compensation, Industrial, 8-pin SOP (RM-8), Tube; Manufacturer: Analog Devices; PartNumber: AD8496ARMZ; DatasheetVersion: Rev. C; PackageVersion: 08/2005; PackageReference: RM-8; PackageDescription: 8-Pin Mini Small Outline Package, Body 3 x 3 mm, Pitch 0.65 mm; Supplier 1: Digi-Key; Supplier Part Number 1: AD8496ARMZ-ND; Supplier 2: Farnell; Supplier Part Number 2: 2125955; Supplier 3: Newark; Supplier Part Number 3: 91R2593; Supplier 4: Mouser; Supplier Part Number 4: 584-AD8496ARMZ; Packing: Tube; Mounting Technology: Surface Mount; Code_JEDEC: MO-187-AA; ComponentLink1Description: Manufacturer URL; ComponentLink1URL: http://www.analog.com/en/index.html; ComponentLink2Description: Datasheet; ComponentLink2URL: http://www.analog.com/static/imported-files/data_sheets/AD8494_8495_8496_8497.pdf; ComponentLink3Description: Package Specification; ComponentLink3URL: http://www.analog.com/static/imported-files/packages/PKG_PDF/MSOP%28RM%29/RM_8.pdf; ComponentLink4Description: Product URL; ComponentLink4URL: http://www.analog.com/en/mems-sensors/digital-temperature-sensors/ad8496/products/product.html
footprint ADI-RM-8_N (SOP, 8-Leads, Body 3x3mm, Pitch 0.65mm, IPC Medium Density)
footprint ADI-RM-8_L (SOP, 8-Leads, Body 3x3mm, Pitch 0.65mm, IPC High Density)
footprint ADI-RM-8_M (SOP, 8-Leads, Body 3x3mm, Pitch 0.65mm, IPC Low Density)
pins: 1 -IN (in) "Negative Input.", 2 REF (in) "Reference. This pin must be driven by low impedance.", 3 -VS (power) "Negative Supply.", 4 NC "No Connect.", 5 SENSE (in) "Sense Pin. In measurement mode, connect to output; in setpoint mode, connect to setpoint voltage.", 6 OUT (out) "Output.", 7 +VS (power) "Positive Supply.", 8 +IN (in) "Positive Input."

## AD8496ARMZ-R7
designator U?
Full J-Type Thermocouple Amplifier with Cold Junction Compensation, Industrial, 8-pin SOP (RM-8), Reel; Manufacturer: Analog Devices; PartNumber: AD8496ARMZ-R7; DatasheetVersion: Rev. C; PackageVersion: 08/2005; PackageReference: RM-8; PackageDescription: 8-Pin Mini Small Outline Package, Body 3 x 3 mm, Pitch 0.65 mm; Supplier 1: Digi-Key; Supplier Part Number 1: AD8496ARMZ-R7-ND; Supplier 2: Mouser; Supplier Part Number 2: 584-AD8496ARMZ-R7; Packing: Reel; Mounting Technology: Surface Mount; Code_JEDEC: MO-187-AA; ComponentLink1Description: Manufacturer URL; ComponentLink1URL: http://www.analog.com/en/index.html; ComponentLink2Description: Datasheet; ComponentLink2URL: http://www.analog.com/static/imported-files/data_sheets/AD8494_8495_8496_8497.pdf; ComponentLink3Description: Package Specification; ComponentLink3URL: http://www.analog.com/static/imported-files/packages/PKG_PDF/MSOP%28RM%29/RM_8.pdf; ComponentLink4Description: Product URL; ComponentLink4URL: http://www.analog.com/en/mems-sensors/digital-temperature-sensors/ad8496/products/product.html
footprint ADI-RM-8_N (SOP, 8-Leads, Body 3x3mm, Pitch 0.65mm, IPC Medium Density)
footprint ADI-RM-8_L (SOP, 8-Leads, Body 3x3mm, Pitch 0.65mm, IPC High Density)
footprint ADI-RM-8_M (SOP, 8-Leads, Body 3x3mm, Pitch 0.65mm, IPC Low Density)
pins: 1 -IN (in) "Negative Input.", 2 REF (in) "Reference. This pin must be driven by low impedance.", 3 -VS (power) "Negative Supply.", 4 NC "No Connect.", 5 SENSE (in) "Sense Pin. In measurement mode, connect to output; in setpoint mode, connect to setpoint voltage.", 6 OUT (out) "Output.", 7 +VS (power) "Positive Supply.", 8 +IN (in) "Positive Input."

## AD8496CRMZ
designator U?
Full J-Type Thermocouple Amplifier with Cold Junction Compensation, Industrial, 8-pin SOP (RM-8), Tube; Manufacturer: Analog Devices; PartNumber: AD8496CRMZ; DatasheetVersion: Rev. C; PackageVersion: 08/2005; PackageReference: RM-8; PackageDescription: 8-Pin Mini Small Outline Package, Body 3 x 3 mm, Pitch 0.65 mm; Supplier 1: Digi-Key; Supplier Part Number 1: AD8496CRMZ-ND; Supplier 2: Farnell; Supplier Part Number 2: 2353499; Supplier 3: Newark; Supplier Part Number 3: 91R2595; Supplier 4: Mouser; Supplier Part Number 4: 584-AD8496CRMZ; Packing: Tube; Mounting Technology: Surface Mount; Code_JEDEC: MO-187-AA; ComponentLink1Description: Manufacturer URL; ComponentLink1URL: http://www.analog.com/en/index.html; ComponentLink2Description: Datasheet; ComponentLink2URL: http://www.analog.com/static/imported-files/data_sheets/AD8494_8495_8496_8497.pdf; ComponentLink3Description: Package Specification; ComponentLink3URL: http://www.analog.com/static/imported-files/packages/PKG_PDF/MSOP%28RM%29/RM_8.pdf; ComponentLink4Description: Product URL; ComponentLink4URL: http://www.analog.com/en/mems-sensors/digital-temperature-sensors/ad8496/products/product.html
footprint ADI-RM-8_N (SOP, 8-Leads, Body 3x3mm, Pitch 0.65mm, IPC Medium Density)
footprint ADI-RM-8_L (SOP, 8-Leads, Body 3x3mm, Pitch 0.65mm, IPC High Density)
footprint ADI-RM-8_M (SOP, 8-Leads, Body 3x3mm, Pitch 0.65mm, IPC Low Density)
pins: 1 -IN (in) "Negative Input.", 2 REF (in) "Reference. This pin must be driven by low impedance.", 3 -VS (power) "Negative Supply.", 4 NC "No Connect.", 5 SENSE (in) "Sense Pin. In measurement mode, connect to output; in setpoint mode, connect to setpoint voltage.", 6 OUT (out) "Output.", 7 +VS (power) "Positive Supply.", 8 +IN (in) "Positive Input."

## AD8496CRMZ-R7
designator U?
Full J-Type Thermocouple Amplifier with Cold Junction Compensation, Industrial, 8-pin SOP (RM-8), Reel; Manufacturer: Analog Devices; PartNumber: AD8496CRMZ-R7; DatasheetVersion: Rev. C; PackageVersion: 08/2005; PackageReference: RM-8; PackageDescription: 8-Pin Mini Small Outline Package, Body 3 x 3 mm, Pitch 0.65 mm; Supplier 1: Digi-Key; Supplier Part Number 1: AD8496CRMZ-R7-ND; Supplier 2: Mouser; Supplier Part Number 2: 584-AD8496CRMZ-R7; Packing: Reel; Mounting Technology: Surface Mount; Code_JEDEC: MO-187-AA; ComponentLink1Description: Manufacturer URL; ComponentLink1URL: http://www.analog.com/en/index.html; ComponentLink2Description: Datasheet; ComponentLink2URL: http://www.analog.com/static/imported-files/data_sheets/AD8494_8495_8496_8497.pdf; ComponentLink3Description: Package Specification; ComponentLink3URL: http://www.analog.com/static/imported-files/packages/PKG_PDF/MSOP%28RM%29/RM_8.pdf; ComponentLink4Description: Product URL; ComponentLink4URL: http://www.analog.com/en/mems-sensors/digital-temperature-sensors/ad8496/products/product.html
footprint ADI-RM-8_N (SOP, 8-Leads, Body 3x3mm, Pitch 0.65mm, IPC Medium Density)
footprint ADI-RM-8_L (SOP, 8-Leads, Body 3x3mm, Pitch 0.65mm, IPC High Density)
footprint ADI-RM-8_M (SOP, 8-Leads, Body 3x3mm, Pitch 0.65mm, IPC Low Density)
pins: 1 -IN (in) "Negative Input.", 2 REF (in) "Reference. This pin must be driven by low impedance.", 3 -VS (power) "Negative Supply.", 4 NC "No Connect.", 5 SENSE (in) "Sense Pin. In measurement mode, connect to output; in setpoint mode, connect to setpoint voltage.", 6 OUT (out) "Output.", 7 +VS (power) "Positive Supply.", 8 +IN (in) "Positive Input."

## AD8497ARMZ
designator U?
Full K-Type Thermocouple Amplifier with Cold Junction Compensation, Industrial, 8-pin SOP (RM-8), Tube; Manufacturer: Analog Devices; PartNumber: AD8497ARMZ; DatasheetVersion: Rev. C; PackageVersion: 08/2005; PackageReference: RM-8; PackageDescription: 8-Pin Mini Small Outline Package, Body 3 x 3 mm, Pitch 0.65 mm; Supplier 1: Digi-Key; Supplier Part Number 1: AD8497ARMZ-ND; Supplier 2: Farnell; Supplier Part Number 2: 2067806; Supplier 3: Farnell; Supplier Part Number 3: 2135222; Supplier 4: Newark; Supplier Part Number 4: 85R6450; Supplier 5: Newark; Supplier Part Number 5: 73T8195; Supplier 6: Mouser; Supplier Part Number 6: 584-AD8497ARMZ; Packing: Tube; Mounting Technology: Surface Mount; Code_JEDEC: MO-187-AA; ComponentLink1Description: Manufacturer URL; ComponentLink1URL: http://www.analog.com/en/index.html; ComponentLink2Description: Datasheet; ComponentLink2URL: http://www.analog.com/static/imported-files/data_sheets/AD8494_8495_8496_8497.pdf; ComponentLink3Description: Package Specification; ComponentLink3URL: http://www.analog.com/static/imported-files/packages/PKG_PDF/MSOP%28RM%29/RM_8.pdf; ComponentLink4Description: Product URL; ComponentLink4URL: http://www.analog.com/en/mems-sensors/digital-temperature-sensors/ad8497/products/product.html
footprint ADI-RM-8_N (SOP, 8-Leads, Body 3x3mm, Pitch 0.65mm, IPC Medium Density)
footprint ADI-RM-8_L (SOP, 8-Leads, Body 3x3mm, Pitch 0.65mm, IPC High Density)
footprint ADI-RM-8_M (SOP, 8-Leads, Body 3x3mm, Pitch 0.65mm, IPC Low Density)
pins: 1 -IN (in) "Negative Input.", 2 REF (in) "Reference. This pin must be driven by low impedance.", 3 -VS (power) "Negative Supply.", 4 NC "No Connect.", 5 SENSE (in) "Sense Pin. In measurement mode, connect to output; in setpoint mode, connect to setpoint voltage.", 6 OUT (out) "Output.", 7 +VS (power) "Positive Supply.", 8 +IN (in) "Positive Input."

## AD8497ARMZ-R7
designator U?
Full K-Type Thermocouple Amplifier with Cold Junction Compensation, Industrial, 8-pin SOP (RM-8), Reel; Manufacturer: Analog Devices; PartNumber: AD8497ARMZ-R7; DatasheetVersion: Rev. C; PackageVersion: 08/2005; PackageReference: RM-8; PackageDescription: 8-Pin Mini Small Outline Package, Body 3 x 3 mm, Pitch 0.65 mm; Supplier 1: Digi-Key; Supplier Part Number 1: AD8497ARMZ-R7-ND; Supplier 2: Mouser; Supplier Part Number 2: 584-AD8497ARMZ-R7; Packing: Reel; Mounting Technology: Surface Mount; Code_JEDEC: MO-187-AA; ComponentLink1Description: Manufacturer URL; ComponentLink1URL: http://www.analog.com/en/index.html; ComponentLink2Description: Datasheet; ComponentLink2URL: http://www.analog.com/static/imported-files/data_sheets/AD8494_8495_8496_8497.pdf; ComponentLink3Description: Package Specification; ComponentLink3URL: http://www.analog.com/static/imported-files/packages/PKG_PDF/MSOP%28RM%29/RM_8.pdf; ComponentLink4Description: Product URL; ComponentLink4URL: http://www.analog.com/en/mems-sensors/digital-temperature-sensors/ad8497/products/product.html
footprint ADI-RM-8_N (SOP, 8-Leads, Body 3x3mm, Pitch 0.65mm, IPC Medium Density)
footprint ADI-RM-8_L (SOP, 8-Leads, Body 3x3mm, Pitch 0.65mm, IPC High Density)
footprint ADI-RM-8_M (SOP, 8-Leads, Body 3x3mm, Pitch 0.65mm, IPC Low Density)
pins: 1 -IN (in) "Negative Input.", 2 REF (in) "Reference. This pin must be driven by low impedance.", 3 -VS (power) "Negative Supply.", 4 NC "No Connect.", 5 SENSE (in) "Sense Pin. In measurement mode, connect to output; in setpoint mode, connect to setpoint voltage.", 6 OUT (out) "Output.", 7 +VS (power) "Positive Supply.", 8 +IN (in) "Positive Input."

## AD8497CRMZ
designator U?
Full K-Type Thermocouple Amplifier with Cold Junction Compensation, Industrial, 8-pin SOP (RM-8), Tube; Manufacturer: Analog Devices; PartNumber: AD8497CRMZ; DatasheetVersion: Rev. C; PackageVersion: 08/2005; PackageReference: RM-8; PackageDescription: 8-Pin Mini Small Outline Package, Body 3 x 3 mm, Pitch 0.65 mm; Supplier 1: Digi-Key; Supplier Part Number 1: AD8497CRMZ-ND; Supplier 2: Farnell; Supplier Part Number 2: 2353487; Supplier 3: Newark; Supplier Part Number 3: 85R6452; Supplier 4: Mouser; Supplier Part Number 4: 584-AD8497CRMZ; Packing: Tube; Mounting Technology: Surface Mount; Code_JEDEC: MO-187-AA; ComponentLink1Description: Manufacturer URL; ComponentLink1URL: http://www.analog.com/en/index.html; ComponentLink2Description: Datasheet; ComponentLink2URL: http://www.analog.com/static/imported-files/data_sheets/AD8494_8495_8496_8497.pdf; ComponentLink3Description: Package Specification; ComponentLink3URL: http://www.analog.com/static/imported-files/packages/PKG_PDF/MSOP%28RM%29/RM_8.pdf; ComponentLink4Description: Product URL; ComponentLink4URL: http://www.analog.com/en/mems-sensors/digital-temperature-sensors/ad8497/products/product.html
footprint ADI-RM-8_N (SOP, 8-Leads, Body 3x3mm, Pitch 0.65mm, IPC Medium Density)
footprint ADI-RM-8_L (SOP, 8-Leads, Body 3x3mm, Pitch 0.65mm, IPC High Density)
footprint ADI-RM-8_M (SOP, 8-Leads, Body 3x3mm, Pitch 0.65mm, IPC Low Density)
pins: 1 -IN (in) "Negative Input.", 2 REF (in) "Reference. This pin must be driven by low impedance.", 3 -VS (power) "Negative Supply.", 4 NC "No Connect.", 5 SENSE (in) "Sense Pin. In measurement mode, connect to output; in setpoint mode, connect to setpoint voltage.", 6 OUT (out) "Output.", 7 +VS (power) "Positive Supply.", 8 +IN (in) "Positive Input."

## AD8497CRMZ-R7
designator U?
Full K-Type Thermocouple Amplifier with Cold Junction Compensation, Industrial, 8-pin SOP (RM-8), Reel; Manufacturer: Analog Devices; PartNumber: AD8497CRMZ-R7; DatasheetVersion: Rev. C; PackageVersion: 08/2005; PackageReference: RM-8; PackageDescription: 8-Pin Mini Small Outline Package, Body 3 x 3 mm, Pitch 0.65 mm; Supplier 1: Digi-Key; Supplier Part Number 1: AD8497CRMZ-R7-ND; Supplier 2: Mouser; Supplier Part Number 2: 584-AD8497CRMZ-R7; Packing: Reel; Mounting Technology: Surface Mount; Code_JEDEC: MO-187-AA; ComponentLink1Description: Manufacturer URL; ComponentLink1URL: http://www.analog.com/en/index.html; ComponentLink2Description: Datasheet; ComponentLink2URL: http://www.analog.com/static/imported-files/data_sheets/AD8494_8495_8496_8497.pdf; ComponentLink3Description: Package Specification; ComponentLink3URL: http://www.analog.com/static/imported-files/packages/PKG_PDF/MSOP%28RM%29/RM_8.pdf; ComponentLink4Description: Product URL; ComponentLink4URL: http://www.analog.com/en/mems-sensors/digital-temperature-sensors/ad8497/products/product.html
footprint ADI-RM-8_N (SOP, 8-Leads, Body 3x3mm, Pitch 0.65mm, IPC Medium Density)
footprint ADI-RM-8_L (SOP, 8-Leads, Body 3x3mm, Pitch 0.65mm, IPC High Density)
footprint ADI-RM-8_M (SOP, 8-Leads, Body 3x3mm, Pitch 0.65mm, IPC Low Density)
pins: 1 -IN (in) "Negative Input.", 2 REF (in) "Reference. This pin must be driven by low impedance.", 3 -VS (power) "Negative Supply.", 4 NC "No Connect.", 5 SENSE (in) "Sense Pin. In measurement mode, connect to output; in setpoint mode, connect to setpoint voltage.", 6 OUT (out) "Output.", 7 +VS (power) "Positive Supply.", 8 +IN (in) "Positive Input."

## AD22100AR
designator U?
Voltage Output Temperature Sensor with Signal Conditioning, 4 to 6.5 V Supply, Industrial, 8-pin SOIC (R-8), Tube; Manufacturer: Analog Devices; PartNumber: AD22100AR; DatasheetVersion: Rev. D; PackageVersion: 060506-A, 06/2006; PackageReference: R-8; PackageDescription: 8-Pin Standard Small Outline Package, Body 4.9 x 3.9 mm, Pitch 1.27 mm; Supplier 1: Digi-Key; Supplier Part Number 1: AD22100AR-ND; Supplier 2: Mouser; Supplier Part Number 2: 584-AD22100AR; Packing: Tube; Supply Voltage Range: 4 to 6.5 V; Mounting Technology: Surface Mount; Code_JEDEC: MS-012-AA; ComponentLink1Description: Manufacturer URL; ComponentLink1URL: http://www.analog.com/en/index.html; ComponentLink2Description: Datasheet; ComponentLink2URL: http://www.analog.com/static/imported-files/data_sheets/AD22100.pdf; ComponentLink3Description: Package Specification; ComponentLink3URL: http://www.analog.com/static/imported-files/packages/PKG_PDF/SOIC_Narrow%20(R)/R_8.pdf; ComponentLink4Description: Product URL; ComponentLink4URL: http://www.analog.com/en/mems-sensors/digital-temperature-sensors/ad22100/products/product.html
footprint ADI-R-8_N (SOIC, 8-Leads, Body 4.9x3.9mm, Pitch 1.27mm, IPC Medium Density)
footprint ADI-R-8_L (SOIC, 8-Leads, Body 4.9x3.9mm, Pitch 1.27mm, IPC High Density)
footprint ADI-R-8_M (SOIC, 8-Leads, Body 4.9x3.9mm, Pitch 1.27mm, IPC Low Density)
part A pins: 1 V+ (power) "Power Supply Input.", 2 VO (out) "Device Output.", 4 GND (power) "Ground Pin Must Be Connected to 0 V."
part B pins: 3 NC "No Connect.", 5 NC "No Connect.", 6 NC "No Connect.", 7 NC "No Connect.", 8 NC "No Connect."

## AD22100AR-REEL
designator U?
Voltage Output Temperature Sensor with Signal Conditioning, 4 to 6.5 V Supply, Industrial, 8-pin SOIC (R-8), Reel; Manufacturer: Analog Devices; PartNumber: AD22100AR-REEL; DatasheetVersion: Rev. D; PackageVersion: 060506-A, 06/2006; PackageReference: R-8; PackageDescription: 8-Pin Standard Small Outline Package, Body 4.9 x 3.9 mm, Pitch 1.27 mm; Supplier 1: Digi-Key; Supplier Part Number 1: AD22100AR-REEL-ND; Supplier 2: Newark; Supplier Part Number 2: 53H7113; Supplier 3: Mouser; Supplier Part Number 3: 584-AD22100AR-R; Packing: Reel; Supply Voltage Range: 4 to 6.5 V; Mounting Technology: Surface Mount; Code_JEDEC: MS-012-AA; ComponentLink1Description: Manufacturer URL; ComponentLink1URL: http://www.analog.com/en/index.html; ComponentLink2Description: Datasheet; ComponentLink2URL: http://www.analog.com/static/imported-files/data_sheets/AD22100.pdf; ComponentLink3Description: Package Specification; ComponentLink3URL: http://www.analog.com/static/imported-files/packages/PKG_PDF/SOIC_Narrow%20(R)/R_8.pdf; ComponentLink4Description: Product URL; ComponentLink4URL: http://www.analog.com/en/mems-sensors/digital-temperature-sensors/ad22100/products/product.html
footprint ADI-R-8_N (SOIC, 8-Leads, Body 4.9x3.9mm, Pitch 1.27mm, IPC Medium Density)
footprint ADI-R-8_L (SOIC, 8-Leads, Body 4.9x3.9mm, Pitch 1.27mm, IPC High Density)
footprint ADI-R-8_M (SOIC, 8-Leads, Body 4.9x3.9mm, Pitch 1.27mm, IPC Low Density)
part A pins: 1 V+ (power) "Power Supply Input.", 2 VO (out) "Device Output.", 4 GND (power) "Ground Pin Must Be Connected to 0 V."
part B pins: 3 NC "No Connect.", 5 NC "No Connect.", 6 NC "No Connect.", 7 NC "No Connect.", 8 NC "No Connect."